# Altium schematic symbol library STUSB1600AQTR.SchLib: 2 symbols
Pins are listed as number, name and electrical type; pins without a type are passive.

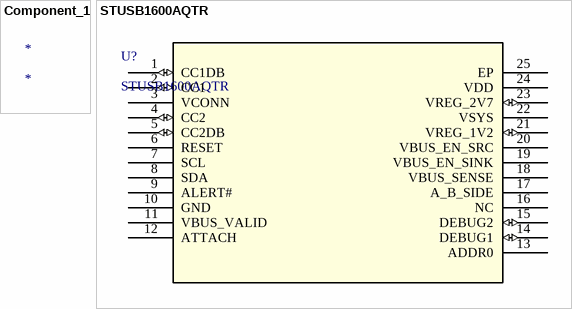
[diagram p0: symbols Component_1 to STUSB1600AQTR]

## Component_1
designator *

## STUSB1600AQTR
designator U?
No Description Available; Mfr_Name: STMicroelectronics; Copyright: Copyright (C) 2023 Ultra Librarian. All rights reserved.; Manufacturer_Part_Number: STUSB1600AQTR; Digi-Key_Part_Number_1: 497-17647-2-ND; Digi-Key_Part_Number_2: 497-17647-1-ND; Digi-Key_Part_Number_3: 497-17647-6-ND; RefDes: RefDes; Type: DEV
footprint QFN_00AQTR_STM
pins: 1 CC1DB (io), 2 CC1 (io), 3 VCONN, 4 CC2 (io), 5 CC2DB (io), 6 RESET, 7 SCL, 8 SDA, 9 ALERT#, 10 GND, 11 VBUS_VALID, 12 ATTACH, 13 ADDR0, 14 DEBUG1 (io), 15 DEBUG2 (io), 16 NC, 17 A_B_SIDE, 18 VBUS_SENSE, 19 VBUS_EN_SINK, 20 VBUS_EN_SRC, 21 VREG_1V2 (io), 22 VSYS, 23 VREG_2V7 (io), 24 VDD (power), 25 EP